# EAGLE library part DG419DJ-E3 (library Vishay)
Precision CMOS Analog Switches
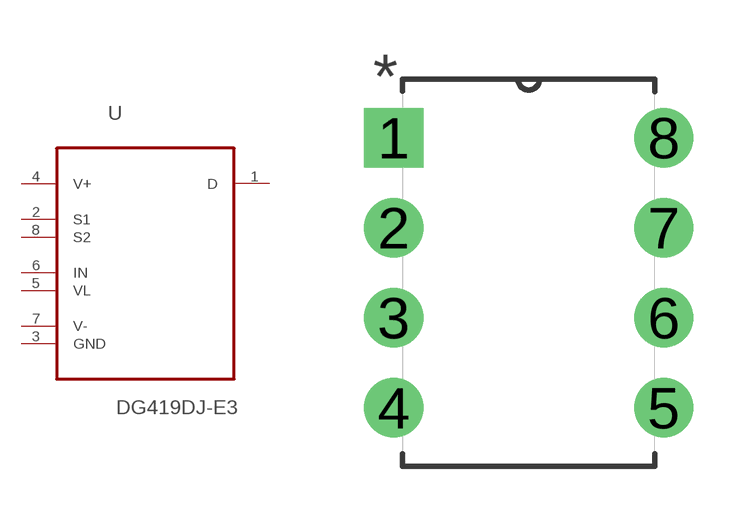
[diagram p52: symbol with the pads of DIP254P762X508-8; footprint DIP254P762X508-8]

Designator prefix U

## DG419DJ-E3 (MPN: DG419DJ-E3; OC_FARNELL: 1077115; OC_NEWARK: 49K9621; PACKAGE: DIP-8; SUPPLIER: VISHAY SILICONIX)  [DIP254P762X508-8]
1  D  out
2  S1  in
3  GND  pas
4  V+  pwr
5  VL  in
6  IN  in
7  V-  pwr
8  S2  in

## Footprint DIP254P762X508-8 (pad centres in mm)
drill 1.118 square: 1 -7.62,7.62
drill 1.118: 2 -7.62,5.08; 3 -7.62,2.54; 4 -7.62,0; 5 0,0; 6 0,2.54; 7 0,5.08; 8 0,7.62